# EAGLE library part HM92560 (library micro-harris)
MICROCONTROLLER/MEMORY DEVICE
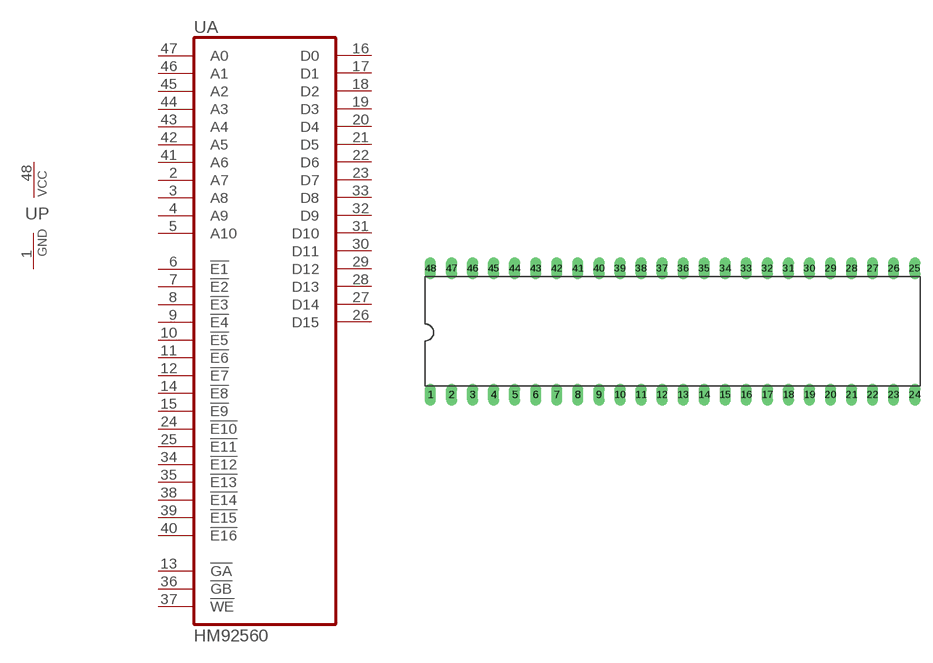
[diagram p7: symbol with the pads of DIL48; footprint DIL48]

Designator prefix U; gates A=HM92560 P=PWRN

## HM92560 (OC_FARNELL: unknown; OC_NEWARK: unknown)  [DIL48]
1  P:GND  pwr
2  A:A7  in
3  A:A8  in
4  A:A9  in
5  A:A10  in
6  A:!E1  in
7  A:!E2  in
8  A:!E3  in
9  A:!E4  in
10  A:!E5  in
11  A:!E6  in
12  A:!E7  in
13  A:!GA  in
14  A:!E8  in
15  A:!E9  in
16  A:D0
17  A:D1
18  A:D2
19  A:D3
20  A:D4
21  A:D5
22  A:D6
23  A:D7
24  A:!E10  in
25  A:!E11  in
26  A:D15
27  A:D14
28  A:D13
29  A:D12
30  A:D11
31  A:D10
32  A:D9
33  A:D8
34  A:!E12  in
35  A:!E13  in
36  A:!GB  in
37  A:!WE  in
38  A:!E14  in
39  A:!E15  in
40  A:!E16  in
41  A:A6  in
42  A:A5  in
43  A:A4  in
44  A:A3  in
45  A:A2  in
46  A:A1  in
47  A:A0  in
48  P:VCC  pwr

## Footprint DIL48 (pad centres in mm)
Dual In Line Package
drill 0.813 long: 1 -29.21,-7.62; 2 -26.67,-7.62; 3 -24.13,-7.62; 4 -21.59,-7.62; 5 -19.05,-7.62; 6 -16.51,-7.62; 7 -13.97,-7.62; 8 -11.43,-7.62; 9 -8.89,-7.62; 10 -6.35,-7.62; 11 -3.81,-7.62; 12 -1.27,-7.62; 13 1.27,-7.62; 14 3.81,-7.62; 15 6.35,-7.62; 16 8.89,-7.62; 17 11.43,-7.62; 18 13.97,-7.62; 19 16.51,-7.62; 20 19.05,-7.62; 21 21.59,-7.62; 22 24.13,-7.62; 23 26.67,-7.62; 24 29.21,-7.62; 25 29.21,7.62; 26 26.67,7.62; 27 24.13,7.62; 28 21.59,7.62; 29 19.05,7.62; 30 16.51,7.62; 31 13.97,7.62; 32 11.43,7.62; 33 8.89,7.62; 34 6.35,7.62; 35 3.81,7.62; 36 1.27,7.62; 37 -1.27,7.62; 38 -3.81,7.62; 39 -6.35,7.62; 40 -8.89,7.62; 41 -11.43,7.62; 42 -13.97,7.62; 43 -16.51,7.62; 44 -19.05,7.62; 45 -21.59,7.62; 46 -24.13,7.62; 47 -26.67,7.62; 48 -29.21,7.62